# EAGLE library part LM26LVCISD-050/NOPB (library Sensor)
IC TEMP SENS/SWITCH 50C 6WSON Manufacturer's datasheet <http://www.ti.com/lit/ds/symlink/lm26lv.pdf>
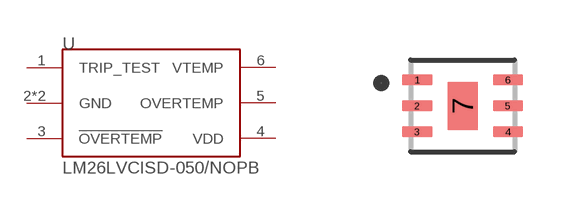
[diagram p0: symbol with the pads of LM26LVCISD-050/NOPB; footprint LM26LVCISD-050/NOPB]

Designator prefix U

## LM26LVCISD-050/NOPB (CREATED_BY: PCBLayout.com; DIGIKEY_PARTNO: LM26LVCISD-050/NOPBTR-ND; MANUFACTURER: Texas Instruments; MPN: LM26LVCISD-050/NOPB; PACKAGE: WSON-06)  [LM26LVCISD-050/NOPB]
1  TRIP_TEST  in
2  GND  pwr
3  !OVERTEMP  out
4  VDD  pwr
5  OVERTEMP  out
6  VTEMP  out
7  GND  pwr

## Footprint LM26LVCISD-050/NOPB (pad centres in mm)
smd 0.76 x 0.27: 1 -1.135,0.65; 2 -1.135,0; 3 -1.135,-0.65; 4 1.135,-0.65; 5 1.135,0; 6 1.135,0.65
smd 0.75 x 1.2: 7 0,0